# Altium integrated library TI Amplifiers and Linear Operational Amplifier Fully Differential Amplifier.IntLib: 262 symbols (part 6 of 11)
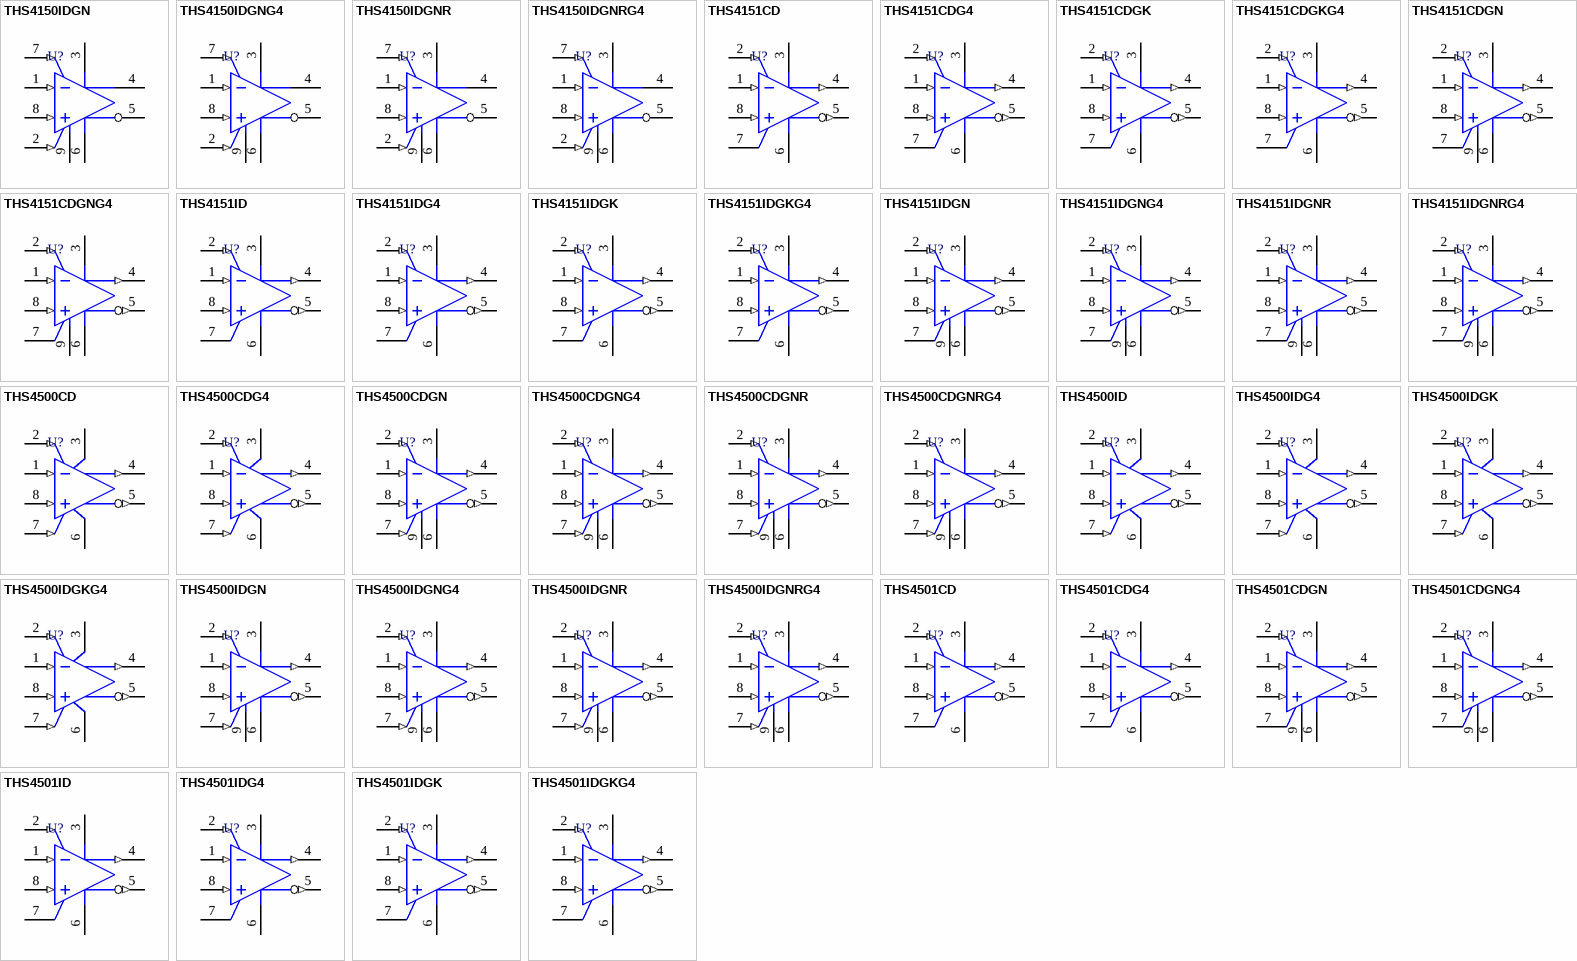
[diagram p12: symbols THS4150IDGN to THS4501IDGKG4]

## THS4151IDGNG4
designator U?
Fully Differential Input / Output High Slew Rate Amplifier, 5 to 30 V, -40 to 85 degC, 8-pin SOP (DGN8), Green (RoHS & no Sb/Br); Manufacturer: Texas Instruments; PartNumber: THS4151IDGNG4; 2nd Harmonic(dBc): 86; 3rd Harmonic(dBc): 95; @ MHz: 1; BW @ Acl(MHz): 150; Io(Typ)(mA): 85; Iq per channel(Max)(mA): 21; Offset Voltage Drift (+/-)(Max)(uV/Degrees Celsius: 7; Settling Time (0.1%)(Typ)(ns): 53; Slew Rate(Typ)(V/us): 650; SubFamily: Fully Differential Amplifier; THD (Fc is 1 MHz)(Typ)(dB): -84; Vn at Flatband(Typ)(nV/rtHz): 7.6; Vs(Max)(V): 30; Vs(Min)(V): 5; DatasheetVersion: SLOS321G; PackageVersion: 4073271/F, 05/2011; PackageReference: DGN8-1760X1425TP; PackageDescription: 8-Pin Plastic Small Outline, Body 3 x 3 mm, Pitch 0.65 mm; Supplier 1: Digi-Key; Supplier Part Number 1: THS4151IDGNG4-ND; Supplier 2: Mouser; Supplier Part Number 2: 595-THS4151IDGNG4; Eco-Plan: Green (RoHS & no Sb/Br); Number of Channels: 1; Vio(Max)(mV): 7; Mounting Technology: Surface Mount; Code_JEDEC: MO-187; ComponentLink1Description: Manufacturer URL; ComponentLink1URL: http://www.ti.com/; ComponentLink2Description: Datasheet; ComponentLink2URL: http://www.ti.com/general/docs/lit/getliterature.tsp?genericPartNumber=THS4151&fileType=pdf; ComponentLink3Description: Package Specification; ComponentLink3URL: http://www.ti.com/litv/pdf/mpds046e
footprint TI-DGN8-1760X1425TP_N (SOP, 8-Leads, Body 3x3mm, Pitch 0.65mm, Thermal Pad 1.76x1.425mm, IPC Medium Density)
footprint TI-DGN8-1760X1425TP_L (SOP, 8-Leads, Body 3x3mm, Pitch 0.65mm, Thermal Pad 1.76x1.425mm, IPC High Density)
footprint TI-DGN8-1760X1425TP_M (SOP, 8-Leads, Body 3x3mm, Pitch 0.65mm, Thermal Pad 1.76 x 1.425 mm, IPC Low Density)
pins: 1 VIN- (in), 2 VOCM (in), 3 VCC+ (power), 4 VOUT+ (out), 5 VOUT- (out), 6 VCC- (power), 7 NC, 8 VIN+ (in), 9 EP

## THS4151IDGNR
designator U?
Fully Differential Input / Output High Slew Rate Amplifier, 5 to 30 V, -40 to 85 degC, 8-pin SOP (DGN8), Green (RoHS & no Sb/Br); Manufacturer: Texas Instruments; PartNumber: THS4151IDGNR; 2nd Harmonic(dBc): 86; 3rd Harmonic(dBc): 95; @ MHz: 1; BW @ Acl(MHz): 150; Io(Typ)(mA): 85; Iq per channel(Max)(mA): 21; Offset Voltage Drift (+/-)(Max)(uV/Degrees Celsius: 7; Settling Time (0.1%)(Typ)(ns): 53; Slew Rate(Typ)(V/us): 650; SubFamily: Fully Differential Amplifier; THD (Fc is 1 MHz)(Typ)(dB): -84; Vn at Flatband(Typ)(nV/rtHz): 7.6; Vs(Max)(V): 30; Vs(Min)(V): 5; DatasheetVersion: SLOS321G; PackageVersion: 4073271/F, 05/2011; PackageReference: DGN8-1760X1425TP; PackageDescription: 8-Pin Plastic Small Outline, Body 3 x 3 mm, Pitch 0.65 mm; Supplier 1: Digi-Key; Supplier Part Number 1: 296-12303-2-ND; Supplier 2: Digi-Key; Supplier Part Number 2: 296-12303-1-ND; Supplier 3: Digi-Key; Supplier Part Number 3: 296-12303-6-ND; Supplier 4: Newark; Supplier Part Number 4: 76C6447; Supplier 5: Mouser; Supplier Part Number 5: 595-THS4151IDGNR; Eco-Plan: Green (RoHS & no Sb/Br); Number of Channels: 1; Vio(Max)(mV): 7; Mounting Technology: Surface Mount; Code_JEDEC: MO-187; ComponentLink1Description: Manufacturer URL; ComponentLink1URL: http://www.ti.com/; ComponentLink2Description: Datasheet; ComponentLink2URL: http://www.ti.com/general/docs/lit/getliterature.tsp?genericPartNumber=THS4151&fileType=pdf; ComponentLink3Description: Package Specification; ComponentLink3URL: http://www.ti.com/litv/pdf/mpds046e
footprint TI-DGN8-1760X1425TP_N (SOP, 8-Leads, Body 3x3mm, Pitch 0.65mm, Thermal Pad 1.76x1.425mm, IPC Medium Density)
footprint TI-DGN8-1760X1425TP_L (SOP, 8-Leads, Body 3x3mm, Pitch 0.65mm, Thermal Pad 1.76x1.425mm, IPC High Density)
footprint TI-DGN8-1760X1425TP_M (SOP, 8-Leads, Body 3x3mm, Pitch 0.65mm, Thermal Pad 1.76 x 1.425 mm, IPC Low Density)
pins: 1 VIN- (in), 2 VOCM (in), 3 VCC+ (power), 4 VOUT+ (out), 5 VOUT- (out), 6 VCC- (power), 7 NC, 8 VIN+ (in), 9 EP

## THS4151IDGNRG4
designator U?
Fully Differential Input / Output High Slew Rate Amplifier, 5 to 30 V, -40 to 85 degC, 8-pin SOP (DGN8), Green (RoHS & no Sb/Br); Manufacturer: Texas Instruments; PartNumber: THS4151IDGNRG4; 2nd Harmonic(dBc): 86; 3rd Harmonic(dBc): 95; @ MHz: 1; BW @ Acl(MHz): 150; Io(Typ)(mA): 85; Iq per channel(Max)(mA): 21; Offset Voltage Drift (+/-)(Max)(uV/Degrees Celsius: 7; Settling Time (0.1%)(Typ)(ns): 53; Slew Rate(Typ)(V/us): 650; SubFamily: Fully Differential Amplifier; THD (Fc is 1 MHz)(Typ)(dB): -84; Vn at Flatband(Typ)(nV/rtHz): 7.6; Vs(Max)(V): 30; Vs(Min)(V): 5; DatasheetVersion: SLOS321G; PackageVersion: 4073271/F, 05/2011; PackageReference: DGN8-1760X1425TP; PackageDescription: 8-Pin Plastic Small Outline, Body 3 x 3 mm, Pitch 0.65 mm; Supplier 1: Digi-Key; Supplier Part Number 1: THS4151IDGNRG4-ND; Supplier 2: Mouser; Supplier Part Number 2: 595-THS4151IDGNRG4; Eco-Plan: Green (RoHS & no Sb/Br); Number of Channels: 1; Vio(Max)(mV): 7; Mounting Technology: Surface Mount; Code_JEDEC: MO-187; ComponentLink1Description: Manufacturer URL; ComponentLink1URL: http://www.ti.com/; ComponentLink2Description: Datasheet; ComponentLink2URL: http://www.ti.com/general/docs/lit/getliterature.tsp?genericPartNumber=THS4151&fileType=pdf; ComponentLink3Description: Package Specification; ComponentLink3URL: http://www.ti.com/litv/pdf/mpds046e
footprint TI-DGN8-1760X1425TP_N (SOP, 8-Leads, Body 3x3mm, Pitch 0.65mm, Thermal Pad 1.76x1.425mm, IPC Medium Density)
footprint TI-DGN8-1760X1425TP_L (SOP, 8-Leads, Body 3x3mm, Pitch 0.65mm, Thermal Pad 1.76x1.425mm, IPC High Density)
footprint TI-DGN8-1760X1425TP_M (SOP, 8-Leads, Body 3x3mm, Pitch 0.65mm, Thermal Pad 1.76 x 1.425 mm, IPC Low Density)
pins: 1 VIN- (in), 2 VOCM (in), 3 VCC+ (power), 4 VOUT+ (out), 5 VOUT- (out), 6 VCC- (power), 7 NC, 8 VIN+ (in), 9 EP

## THS4500CD
designator U?
High-Speed Fully Differential Amplifier, 4.5 to 15 V, 0 to 70 degC, 8-pin SOIC (D8), Green (RoHS & no Sb/Br); Manufacturer: Texas Instruments; PartNumber: THS4500CD; 2nd Harmonic(dBc): 55; 3rd Harmonic(dBc): 60; @ MHz: 30; BW @ Acl(MHz): 320; Io(Typ)(mA): 100; Iq per channel(Max)(mA): 31; Number of Channels: 1; Offset Voltage Drift (+/-)(Max)(uV/Degrees Celsius: 10; Settling Time (0.1%)(Typ)(ns): 8.3; Slew Rate(Typ)(V/us): 1300; THD (Fc is 1 MHz)(Typ)(dB): -70; Vio(Max)(mV): -7; Vn at Flatband(Typ)(nV/rtHz): 7; Vs(Max)(V): 15; Vs(Min)(V): 4.5; DatasheetVersion: SLOS350F; PackageVersion: 4040047-3/M, 06/2011; PackageReference: D8; PackageDescription: 8-Pin Plastic Small Outline, Body 4.9 x 3.9 mm, Pitch 1.27 mm; Supplier 1: Digi-Key; Supplier Part Number 1: THS4500CD-ND; Supplier 2: Newark; Supplier Part Number 2: 76C6449; Supplier 3: Mouser; Supplier Part Number 3: 595-THS4500CD; Eco-Plan: Green (RoHS & no Sb/Br); SubFamily: Fully Differential Amplifier; Mounting Technology: Surface Mount; Code_JEDEC: MS-012; ComponentLink1Description: Manufacturer URL; ComponentLink1URL: http://www.ti.com/; ComponentLink2Description: Datasheet; ComponentLink2URL: http://www.ti.com/general/docs/lit/getliterature.tsp?genericPartNumber=THS4500&fileType=pdf; ComponentLink3Description: Package Specification; ComponentLink3URL: http://www.ti.com/litv/pdf/msoi002j
footprint TI-D8_N (SOIC, 8-Leads, Body 4.9x3.9mm, Pitch 1.27mm, IPC Medium Density)
footprint TI-D8_L (SOIC, 8-Leads, Body 4.9x3.9mm, Pitch 1.27mm, IPC High Density)
footprint TI-D8_M (SOIC, 8-Leads, Body 4.9x3.9mm, Pitch 1.27mm, IPC Low Density)
pins: 1 VIN- (in) "Inverting amplifier input", 2 VOCM (in) "Common-mode voltage input", 3 VS+ (power) "Amplifier positive power-supply input", 4 VOUT+ (out) "Noninverting amplifier output", 5 VOUT- (out) "Inverting amplifier output", 6 VS- (power) "Amplifier negative power-supply input. Note that VS- is tied together on multi-channel devices.", 7 ~{PD} (in) "Power down. P\D\ = logic low puts device into low-power mode. P\D\ = logic high or open for normal operation.", 8 VIN+ (in) "Noninverting amplifier input"

## THS4500CDG4
designator U?
High-Speed Fully Differential Amplifier, 4.5 to 15 V, 0 to 70 degC, 8-pin SOIC (D8), Green (RoHS & no Sb/Br); Manufacturer: Texas Instruments; PartNumber: THS4500CDG4; 2nd Harmonic(dBc): 55; 3rd Harmonic(dBc): 60; @ MHz: 30; BW @ Acl(MHz): 320; Io(Typ)(mA): 100; Iq per channel(Max)(mA): 31; Number of Channels: 1; Offset Voltage Drift (+/-)(Max)(uV/Degrees Celsius: 10; Settling Time (0.1%)(Typ)(ns): 8.3; Slew Rate(Typ)(V/us): 1300; THD (Fc is 1 MHz)(Typ)(dB): -70; Vio(Max)(mV): -7; Vn at Flatband(Typ)(nV/rtHz): 7; Vs(Max)(V): 15; Vs(Min)(V): 4.5; DatasheetVersion: SLOS350F; PackageVersion: 4040047-3/M, 06/2011; PackageReference: D8; PackageDescription: 8-Pin Plastic Small Outline, Body 4.9 x 3.9 mm, Pitch 1.27 mm; Supplier 1: Digi-Key; Supplier Part Number 1: THS4500CDG4-ND; Supplier 2: Mouser; Supplier Part Number 2: 595-THS4500CDG4; Eco-Plan: Green (RoHS & no Sb/Br); SubFamily: Fully Differential Amplifier; Mounting Technology: Surface Mount; Code_JEDEC: MS-012; ComponentLink1Description: Manufacturer URL; ComponentLink1URL: http://www.ti.com/; ComponentLink2Description: Datasheet; ComponentLink2URL: http://www.ti.com/general/docs/lit/getliterature.tsp?genericPartNumber=THS4500&fileType=pdf; ComponentLink3Description: Package Specification; ComponentLink3URL: http://www.ti.com/litv/pdf/msoi002j
footprint TI-D8_N (SOIC, 8-Leads, Body 4.9x3.9mm, Pitch 1.27mm, IPC Medium Density)
footprint TI-D8_L (SOIC, 8-Leads, Body 4.9x3.9mm, Pitch 1.27mm, IPC High Density)
footprint TI-D8_M (SOIC, 8-Leads, Body 4.9x3.9mm, Pitch 1.27mm, IPC Low Density)
pins: 1 VIN- (in) "Inverting amplifier input", 2 VOCM (in) "Common-mode voltage input", 3 VS+ (power) "Amplifier positive power-supply input", 4 VOUT+ (out) "Noninverting amplifier output", 5 VOUT- (out) "Inverting amplifier output", 6 VS- (power) "Amplifier negative power-supply input. Note that VS- is tied together on multi-channel devices.", 7 ~{PD} (in) "Power down. P\D\ = logic low puts device into low-power mode. P\D\ = logic high or open for normal operation.", 8 VIN+ (in) "Noninverting amplifier input"

## THS4500CDGN
designator U?
High-Speed Fully Differential Amplifier, 4.5 to 15 V, 0 to 70 degC, 8-pin SOP (DGN8), Green (RoHS & no Sb/Br); Manufacturer: Texas Instruments; PartNumber: THS4500CDGN; 2nd Harmonic(dBc): 55; 3rd Harmonic(dBc): 60; @ MHz: 30; BW @ Acl(MHz): 320; Io(Typ)(mA): 100; Iq per channel(Max)(mA): 31; Number of Channels: 1; Offset Voltage Drift (+/-)(Max)(uV/Degrees Celsius: 10; Settling Time (0.1%)(Typ)(ns): 8.3; Slew Rate(Typ)(V/us): 1300; THD (Fc is 1 MHz)(Typ)(dB): -70; Vio(Max)(mV): -7; Vn at Flatband(Typ)(nV/rtHz): 7; Vs(Max)(V): 15; Vs(Min)(V): 4.5; DatasheetVersion: SLOS350F; PackageVersion: 4073271/F, 05/2011; PackageReference: DGN8-1760X1425TP; PackageDescription: 8-Pin Plastic Small Outline, Body 3 x 3 mm, Pitch 0.65 mm; Supplier 1: Digi-Key; Supplier Part Number 1: THS4500CDGN-ND; Supplier 2: Mouser; Supplier Part Number 2: 595-THS4500CDGN; Eco-Plan: Green (RoHS & no Sb/Br); SubFamily: Fully Differential Amplifier; Mounting Technology: Surface Mount; Code_JEDEC: MO-187; ComponentLink1Description: Manufacturer URL; ComponentLink1URL: http://www.ti.com/; ComponentLink2Description: Datasheet; ComponentLink2URL: http://www.ti.com/general/docs/lit/getliterature.tsp?genericPartNumber=THS4500&fileType=pdf; ComponentLink3Description: Package Specification; ComponentLink3URL: http://www.ti.com/litv/pdf/mpds046e
footprint TI-DGN8-1760X1425TP_N (SOP, 8-Leads, Body 3x3mm, Pitch 0.65mm, Thermal Pad 1.76x1.425mm, IPC Medium Density)
footprint TI-DGN8-1760X1425TP_L (SOP, 8-Leads, Body 3x3mm, Pitch 0.65mm, Thermal Pad 1.76x1.425mm, IPC High Density)
footprint TI-DGN8-1760X1425TP_M (SOP, 8-Leads, Body 3x3mm, Pitch 0.65mm, Thermal Pad 1.76 x 1.425 mm, IPC Low Density)
pins: 1 VIN- (in), 2 VOCM (in), 3 VS+ (power), 4 VOUT+ (out), 5 VOUT- (out), 6 VS- (power), 7 ~{PD} (in), 8 VIN+ (in), 9 EP

## THS4500CDGNG4
designator U?
High-Speed Fully Differential Amplifier, 4.5 to 15 V, 0 to 70 degC, 8-pin SOP (DGN8), Green (RoHS & no Sb/Br); Manufacturer: Texas Instruments; PartNumber: THS4500CDGNG4; 2nd Harmonic(dBc): 55; 3rd Harmonic(dBc): 60; @ MHz: 30; BW @ Acl(MHz): 320; Io(Typ)(mA): 100; Iq per channel(Max)(mA): 31; Number of Channels: 1; Offset Voltage Drift (+/-)(Max)(uV/Degrees Celsius: 10; Settling Time (0.1%)(Typ)(ns): 8.3; Slew Rate(Typ)(V/us): 1300; THD (Fc is 1 MHz)(Typ)(dB): -70; Vio(Max)(mV): -7; Vn at Flatband(Typ)(nV/rtHz): 7; Vs(Max)(V): 15; Vs(Min)(V): 4.5; DatasheetVersion: SLOS350F; PackageVersion: 4073271/F, 05/2011; PackageReference: DGN8-1760X1425TP; PackageDescription: 8-Pin Plastic Small Outline, Body 3 x 3 mm, Pitch 0.65 mm; Supplier 1: Digi-Key; Supplier Part Number 1: THS4500CDGNG4-ND; Supplier 2: Mouser; Supplier Part Number 2: 595-THS4500CDGNG4; Eco-Plan: Green (RoHS & no Sb/Br); SubFamily: Fully Differential Amplifier; Mounting Technology: Surface Mount; Code_JEDEC: MO-187; ComponentLink1Description: Manufacturer URL; ComponentLink1URL: http://www.ti.com/; ComponentLink2Description: Datasheet; ComponentLink2URL: http://www.ti.com/general/docs/lit/getliterature.tsp?genericPartNumber=THS4500&fileType=pdf; ComponentLink3Description: Package Specification; ComponentLink3URL: http://www.ti.com/litv/pdf/mpds046e
footprint TI-DGN8-1760X1425TP_N (SOP, 8-Leads, Body 3x3mm, Pitch 0.65mm, Thermal Pad 1.76x1.425mm, IPC Medium Density)
footprint TI-DGN8-1760X1425TP_L (SOP, 8-Leads, Body 3x3mm, Pitch 0.65mm, Thermal Pad 1.76x1.425mm, IPC High Density)
footprint TI-DGN8-1760X1425TP_M (SOP, 8-Leads, Body 3x3mm, Pitch 0.65mm, Thermal Pad 1.76 x 1.425 mm, IPC Low Density)
pins: 1 VIN- (in), 2 VOCM (in), 3 VS+ (power), 4 VOUT+ (out), 5 VOUT- (out), 6 VS- (power), 7 ~{PD} (in), 8 VIN+ (in), 9 EP

## THS4500CDGNR
designator U?
High-Speed Fully Differential Amplifier, 4.5 to 15 V, 0 to 70 degC, 8-pin SOP (DGN8), Green (RoHS & no Sb/Br); Manufacturer: Texas Instruments; PartNumber: THS4500CDGNR; 2nd Harmonic(dBc): 55; 3rd Harmonic(dBc): 60; @ MHz: 30; BW @ Acl(MHz): 320; Io(Typ)(mA): 100; Iq per channel(Max)(mA): 31; Number of Channels: 1; Offset Voltage Drift (+/-)(Max)(uV/Degrees Celsius: 10; Settling Time (0.1%)(Typ)(ns): 8.3; Slew Rate(Typ)(V/us): 1300; THD (Fc is 1 MHz)(Typ)(dB): -70; Vio(Max)(mV): -7; Vn at Flatband(Typ)(nV/rtHz): 7; Vs(Max)(V): 15; Vs(Min)(V): 4.5; DatasheetVersion: SLOS350F; PackageVersion: 4073271/F, 05/2011; PackageReference: DGN8-1760X1425TP; PackageDescription: 8-Pin Plastic Small Outline, Body 3 x 3 mm, Pitch 0.65 mm; Supplier 1: Digi-Key; Supplier Part Number 1: THS4500CDGNR-ND; Supplier 2: Mouser; Supplier Part Number 2: 595-THS4500CDGNR; Eco-Plan: Green (RoHS & no Sb/Br); SubFamily: Fully Differential Amplifier; Mounting Technology: Surface Mount; Code_JEDEC: MO-187; ComponentLink1Description: Manufacturer URL; ComponentLink1URL: http://www.ti.com/; ComponentLink2Description: Datasheet; ComponentLink2URL: http://www.ti.com/general/docs/lit/getliterature.tsp?genericPartNumber=THS4500&fileType=pdf; ComponentLink3Description: Package Specification; ComponentLink3URL: http://www.ti.com/litv/pdf/mpds046e
footprint TI-DGN8-1760X1425TP_N (SOP, 8-Leads, Body 3x3mm, Pitch 0.65mm, Thermal Pad 1.76x1.425mm, IPC Medium Density)
footprint TI-DGN8-1760X1425TP_L (SOP, 8-Leads, Body 3x3mm, Pitch 0.65mm, Thermal Pad 1.76x1.425mm, IPC High Density)
footprint TI-DGN8-1760X1425TP_M (SOP, 8-Leads, Body 3x3mm, Pitch 0.65mm, Thermal Pad 1.76 x 1.425 mm, IPC Low Density)
pins: 1 VIN- (in), 2 VOCM (in), 3 VS+ (power), 4 VOUT+ (out), 5 VOUT- (out), 6 VS- (power), 7 ~{PD} (in), 8 VIN+ (in), 9 EP

## THS4500CDGNRG4
designator U?
High-Speed Fully Differential Amplifier, 4.5 to 15 V, 0 to 70 degC, 8-pin SOP (DGN8), Green (RoHS & no Sb/Br); Manufacturer: Texas Instruments; PartNumber: THS4500CDGNRG4; 2nd Harmonic(dBc): 55; 3rd Harmonic(dBc): 60; @ MHz: 30; BW @ Acl(MHz): 320; Io(Typ)(mA): 100; Iq per channel(Max)(mA): 31; Number of Channels: 1; Offset Voltage Drift (+/-)(Max)(uV/Degrees Celsius: 10; Settling Time (0.1%)(Typ)(ns): 8.3; Slew Rate(Typ)(V/us): 1300; THD (Fc is 1 MHz)(Typ)(dB): -70; Vio(Max)(mV): -7; Vn at Flatband(Typ)(nV/rtHz): 7; Vs(Max)(V): 15; Vs(Min)(V): 4.5; DatasheetVersion: SLOS350F; PackageVersion: 4073271/F, 05/2011; PackageReference: DGN8-1760X1425TP; PackageDescription: 8-Pin Plastic Small Outline, Body 3 x 3 mm, Pitch 0.65 mm; Supplier 1: Digi-Key; Supplier Part Number 1: THS4500CDGNRG4-ND; Supplier 2: Mouser; Supplier Part Number 2: 595-THS4500CDGNRG4; Eco-Plan: Green (RoHS & no Sb/Br); SubFamily: Fully Differential Amplifier; Mounting Technology: Surface Mount; Code_JEDEC: MO-187; ComponentLink1Description: Manufacturer URL; ComponentLink1URL: http://www.ti.com/; ComponentLink2Description: Datasheet; ComponentLink2URL: http://www.ti.com/general/docs/lit/getliterature.tsp?genericPartNumber=THS4500&fileType=pdf; ComponentLink3Description: Package Specification; ComponentLink3URL: http://www.ti.com/litv/pdf/mpds046e
footprint TI-DGN8-1760X1425TP_N (SOP, 8-Leads, Body 3x3mm, Pitch 0.65mm, Thermal Pad 1.76x1.425mm, IPC Medium Density)
footprint TI-DGN8-1760X1425TP_L (SOP, 8-Leads, Body 3x3mm, Pitch 0.65mm, Thermal Pad 1.76x1.425mm, IPC High Density)
footprint TI-DGN8-1760X1425TP_M (SOP, 8-Leads, Body 3x3mm, Pitch 0.65mm, Thermal Pad 1.76 x 1.425 mm, IPC Low Density)
pins: 1 VIN- (in), 2 VOCM (in), 3 VS+ (power), 4 VOUT+ (out), 5 VOUT- (out), 6 VS- (power), 7 ~{PD} (in), 8 VIN+ (in), 9 EP

## THS4500ID
designator U?
High-Speed Fully Differential Amplifier, 4.5 to 15 V, -40 to 85 degC, 8-pin SOIC (D8), Green (RoHS & no Sb/Br); Manufacturer: Texas Instruments; PartNumber: THS4500ID; 2nd Harmonic(dBc): 55; 3rd Harmonic(dBc): 60; @ MHz: 30; BW @ Acl(MHz): 320; Io(Typ)(mA): 100; Iq per channel(Max)(mA): 31; Number of Channels: 1; Offset Voltage Drift (+/-)(Max)(uV/Degrees Celsius: 10; Settling Time (0.1%)(Typ)(ns): 8.3; Slew Rate(Typ)(V/us): 1300; THD (Fc is 1 MHz)(Typ)(dB): -70; Vio(Max)(mV): -7; Vn at Flatband(Typ)(nV/rtHz): 7; Vs(Max)(V): 15; Vs(Min)(V): 4.5; DatasheetVersion: SLOS350F; PackageVersion: 4040047-3/M, 06/2011; PackageReference: D8; PackageDescription: 8-Pin Plastic Small Outline, Body 4.9 x 3.9 mm, Pitch 1.27 mm; Supplier 1: Digi-Key; Supplier Part Number 1: 296-12935-5-ND; Supplier 2: Farnell; Supplier Part Number 2: 8453365; Supplier 3: Newark; Supplier Part Number 3: 38K8262; Supplier 4: Mouser; Supplier Part Number 4: 595-THS4500ID; Eco-Plan: Green (RoHS & no Sb/Br); SubFamily: Fully Differential Amplifier; Mounting Technology: Surface Mount; Code_JEDEC: MS-012; ComponentLink1Description: Manufacturer URL; ComponentLink1URL: http://www.ti.com/; ComponentLink2Description: Datasheet; ComponentLink2URL: http://www.ti.com/general/docs/lit/getliterature.tsp?genericPartNumber=THS4500&fileType=pdf; ComponentLink3Description: Package Specification; ComponentLink3URL: http://www.ti.com/litv/pdf/msoi002j
footprint TI-D8_N (SOIC, 8-Leads, Body 4.9x3.9mm, Pitch 1.27mm, IPC Medium Density)
footprint TI-D8_L (SOIC, 8-Leads, Body 4.9x3.9mm, Pitch 1.27mm, IPC High Density)
footprint TI-D8_M (SOIC, 8-Leads, Body 4.9x3.9mm, Pitch 1.27mm, IPC Low Density)
pins: 1 VIN- (in) "Inverting amplifier input", 2 VOCM (in) "Common-mode voltage input", 3 VS+ (power) "Amplifier positive power-supply input", 4 VOUT+ (out) "Noninverting amplifier output", 5 VOUT- (out) "Inverting amplifier output", 6 VS- (power) "Amplifier negative power-supply input. Note that VS- is tied together on multi-channel devices.", 7 ~{PD} (in) "Power down. P\D\ = logic low puts device into low-power mode. P\D\ = logic high or open for normal operation.", 8 VIN+ (in) "Noninverting amplifier input"

## THS4500IDG4
designator U?
High-Speed Fully Differential Amplifier, 4.5 to 15 V, -40 to 85 degC, 8-pin SOIC (D8), Green (RoHS & no Sb/Br); Manufacturer: Texas Instruments; PartNumber: THS4500IDG4; 2nd Harmonic(dBc): 55; 3rd Harmonic(dBc): 60; @ MHz: 30; BW @ Acl(MHz): 320; Io(Typ)(mA): 100; Iq per channel(Max)(mA): 31; Number of Channels: 1; Offset Voltage Drift (+/-)(Max)(uV/Degrees Celsius: 10; Settling Time (0.1%)(Typ)(ns): 8.3; Slew Rate(Typ)(V/us): 1300; THD (Fc is 1 MHz)(Typ)(dB): -70; Vio(Max)(mV): -7; Vn at Flatband(Typ)(nV/rtHz): 7; Vs(Max)(V): 15; Vs(Min)(V): 4.5; DatasheetVersion: SLOS350F; PackageVersion: 4040047-3/M, 06/2011; PackageReference: D8; PackageDescription: 8-Pin Plastic Small Outline, Body 4.9 x 3.9 mm, Pitch 1.27 mm; Supplier 1: Digi-Key; Supplier Part Number 1: THS4500IDG4-ND; Supplier 2: Mouser; Supplier Part Number 2: 595-THS4500IDG4; Eco-Plan: Green (RoHS & no Sb/Br); SubFamily: Fully Differential Amplifier; Mounting Technology: Surface Mount; Code_JEDEC: MS-012; ComponentLink1Description: Manufacturer URL; ComponentLink1URL: http://www.ti.com/; ComponentLink2Description: Datasheet; ComponentLink2URL: http://www.ti.com/general/docs/lit/getliterature.tsp?genericPartNumber=THS4500&fileType=pdf; ComponentLink3Description: Package Specification; ComponentLink3URL: http://www.ti.com/litv/pdf/msoi002j
footprint TI-D8_N (SOIC, 8-Leads, Body 4.9x3.9mm, Pitch 1.27mm, IPC Medium Density)
footprint TI-D8_L (SOIC, 8-Leads, Body 4.9x3.9mm, Pitch 1.27mm, IPC High Density)
footprint TI-D8_M (SOIC, 8-Leads, Body 4.9x3.9mm, Pitch 1.27mm, IPC Low Density)
pins: 1 VIN- (in) "Inverting amplifier input", 2 VOCM (in) "Common-mode voltage input", 3 VS+ (power) "Amplifier positive power-supply input", 4 VOUT+ (out) "Noninverting amplifier output", 5 VOUT- (out) "Inverting amplifier output", 6 VS- (power) "Amplifier negative power-supply input. Note that VS- is tied together on multi-channel devices.", 7 ~{PD} (in) "Power down. P\D\ = logic low puts device into low-power mode. P\D\ = logic high or open for normal operation.", 8 VIN+ (in) "Noninverting amplifier input"

## THS4500IDGK
designator U?
High-Speed Fully Differential Amplifier, 4.5 to 15 V, -40 to 85 degC, 8-pin SOP (DGK8), Green (RoHS & no Sb/Br); Manufacturer: Texas Instruments; PartNumber: THS4500IDGK; 2nd Harmonic(dBc): 55; 3rd Harmonic(dBc): 60; @ MHz: 30; BW @ Acl(MHz): 320; Io(Typ)(mA): 100; Iq per channel(Max)(mA): 31; Number of Channels: 1; Offset Voltage Drift (+/-)(Max)(uV/Degrees Celsius: 10; Settling Time (0.1%)(Typ)(ns): 8.3; Slew Rate(Typ)(V/us): 1300; THD (Fc is 1 MHz)(Typ)(dB): -70; Vio(Max)(mV): -7; Vn at Flatband(Typ)(nV/rtHz): 7; Vs(Max)(V): 15; Vs(Min)(V): 4.5; DatasheetVersion: SLOS350F; PackageVersion: 4073329/E, 05/2006; PackageReference: DGK8; PackageDescription: 8-Pin Thin Small Outline, Body 3 x 3 mm, Pitch 0.65 mm; Supplier 1: Digi-Key; Supplier Part Number 1: 296-16787-5-ND; Supplier 2: Mouser; Supplier Part Number 2: 595-THS4500IDGK; Eco-Plan: Green (RoHS & no Sb/Br); SubFamily: Fully Differential Amplifier; Mounting Technology: Surface Mount; Code_JEDEC: MO-187; ComponentLink1Description: Manufacturer URL; ComponentLink1URL: http://www.ti.com/; ComponentLink2Description: Datasheet; ComponentLink2URL: http://www.ti.com/general/docs/lit/getliterature.tsp?genericPartNumber=THS4500&fileType=pdf; ComponentLink3Description: Package Specification; ComponentLink3URL: http://www.ti.com/litv/pdf/mpds028d
footprint TI-DGK8_N (SOP, 8-Leads, Body 3x3mm, Pitch 0.65mm, IPC Medium Density)
footprint TI-DGK8_L (SOP, 8-Leads, Body 3x3mm, Pitch 0.65mm, IPC High Density)
footprint TI-DGK8_M (SOP, 8-Leads, Body 3x3mm, Pitch 0.65mm, IPC Low Density)
pins: 1 VIN- (in) "Inverting amplifier input", 2 VOCM (in) "Common-mode voltage input", 3 VS+ (power) "Amplifier positive power-supply input", 4 VOUT+ (out) "Noninverting amplifier output", 5 VOUT- (out) "Inverting amplifier output", 6 VS- (power) "Amplifier negative power-supply input. Note that VS- is tied together on multi-channel devices.", 7 ~{PD} (in) "Power down. P\D\ = logic low puts device into low-power mode. P\D\ = logic high or open for normal operation.", 8 VIN+ (in) "Noninverting amplifier input"

## THS4500IDGKG4
designator U?
High-Speed Fully Differential Amplifier, 4.5 to 15 V, -40 to 85 degC, 8-pin SOP (DGK8), Green (RoHS & no Sb/Br); Manufacturer: Texas Instruments; PartNumber: THS4500IDGKG4; 2nd Harmonic(dBc): 55; 3rd Harmonic(dBc): 60; @ MHz: 30; BW @ Acl(MHz): 320; Io(Typ)(mA): 100; Iq per channel(Max)(mA): 31; Number of Channels: 1; Offset Voltage Drift (+/-)(Max)(uV/Degrees Celsius: 10; Settling Time (0.1%)(Typ)(ns): 8.3; Slew Rate(Typ)(V/us): 1300; THD (Fc is 1 MHz)(Typ)(dB): -70; Vio(Max)(mV): -7; Vn at Flatband(Typ)(nV/rtHz): 7; Vs(Max)(V): 15; Vs(Min)(V): 4.5; DatasheetVersion: SLOS350F; PackageVersion: 4073329/E, 05/2006; PackageReference: DGK8; PackageDescription: 8-Pin Thin Small Outline, Body 3 x 3 mm, Pitch 0.65 mm; Supplier 1: Digi-Key; Supplier Part Number 1: THS4500IDGKG4-ND; Supplier 2: Mouser; Supplier Part Number 2: 595-THS4500IDGKG4; Eco-Plan: Green (RoHS & no Sb/Br); SubFamily: Fully Differential Amplifier; Mounting Technology: Surface Mount; Code_JEDEC: MO-187; ComponentLink1Description: Manufacturer URL; ComponentLink1URL: http://www.ti.com/; ComponentLink2Description: Datasheet; ComponentLink2URL: http://www.ti.com/general/docs/lit/getliterature.tsp?genericPartNumber=THS4500&fileType=pdf; ComponentLink3Description: Package Specification; ComponentLink3URL: http://www.ti.com/litv/pdf/mpds028d
footprint TI-DGK8_N (SOP, 8-Leads, Body 3x3mm, Pitch 0.65mm, IPC Medium Density)
footprint TI-DGK8_L (SOP, 8-Leads, Body 3x3mm, Pitch 0.65mm, IPC High Density)
footprint TI-DGK8_M (SOP, 8-Leads, Body 3x3mm, Pitch 0.65mm, IPC Low Density)
pins: 1 VIN- (in) "Inverting amplifier input", 2 VOCM (in) "Common-mode voltage input", 3 VS+ (power) "Amplifier positive power-supply input", 4 VOUT+ (out) "Noninverting amplifier output", 5 VOUT- (out) "Inverting amplifier output", 6 VS- (power) "Amplifier negative power-supply input. Note that VS- is tied together on multi-channel devices.", 7 ~{PD} (in) "Power down. P\D\ = logic low puts device into low-power mode. P\D\ = logic high or open for normal operation.", 8 VIN+ (in) "Noninverting amplifier input"

## THS4500IDGN
designator U?
High-Speed Fully Differential Amplifier, 4.5 to 15 V, -40 to 85 degC, 8-pin SOP (DGN8), Green (RoHS & no Sb/Br); Manufacturer: Texas Instruments; PartNumber: THS4500IDGN; 2nd Harmonic(dBc): 55; 3rd Harmonic(dBc): 60; @ MHz: 30; BW @ Acl(MHz): 320; Io(Typ)(mA): 100; Iq per channel(Max)(mA): 31; Number of Channels: 1; Offset Voltage Drift (+/-)(Max)(uV/Degrees Celsius: 10; Settling Time (0.1%)(Typ)(ns): 8.3; Slew Rate(Typ)(V/us): 1300; THD (Fc is 1 MHz)(Typ)(dB): -70; Vio(Max)(mV): -7; Vn at Flatband(Typ)(nV/rtHz): 7; Vs(Max)(V): 15; Vs(Min)(V): 4.5; DatasheetVersion: SLOS350F; PackageVersion: 4073271/F, 05/2011; PackageReference: DGN8-1760X1425TP; PackageDescription: 8-Pin Plastic Small Outline, Body 3 x 3 mm, Pitch 0.65 mm; Supplier 1: Digi-Key; Supplier Part Number 1: 296-13045-5-ND; Supplier 2: Newark; Supplier Part Number 2: 76C6454; Supplier 3: Mouser; Supplier Part Number 3: 595-THS4500IDGN; Eco-Plan: Green (RoHS & no Sb/Br); SubFamily: Fully Differential Amplifier; Mounting Technology: Surface Mount; Code_JEDEC: MO-187; ComponentLink1Description: Manufacturer URL; ComponentLink1URL: http://www.ti.com/; ComponentLink2Description: Datasheet; ComponentLink2URL: http://www.ti.com/general/docs/lit/getliterature.tsp?genericPartNumber=THS4500&fileType=pdf; ComponentLink3Description: Package Specification; ComponentLink3URL: http://www.ti.com/litv/pdf/mpds046e
footprint TI-DGN8-1760X1425TP_N (SOP, 8-Leads, Body 3x3mm, Pitch 0.65mm, Thermal Pad 1.76x1.425mm, IPC Medium Density)
footprint TI-DGN8-1760X1425TP_L (SOP, 8-Leads, Body 3x3mm, Pitch 0.65mm, Thermal Pad 1.76x1.425mm, IPC High Density)
footprint TI-DGN8-1760X1425TP_M (SOP, 8-Leads, Body 3x3mm, Pitch 0.65mm, Thermal Pad 1.76 x 1.425 mm, IPC Low Density)
pins: 1 VIN- (in), 2 VOCM (in), 3 VS+ (power), 4 VOUT+ (out), 5 VOUT- (out), 6 VS- (power), 7 ~{PD} (in), 8 VIN+ (in), 9 EP

## THS4500IDGNG4
designator U?
High-Speed Fully Differential Amplifier, 4.5 to 15 V, -40 to 85 degC, 8-pin SOP (DGN8), Green (RoHS & no Sb/Br); Manufacturer: Texas Instruments; PartNumber: THS4500IDGNG4; 2nd Harmonic(dBc): 55; 3rd Harmonic(dBc): 60; @ MHz: 30; BW @ Acl(MHz): 320; Io(Typ)(mA): 100; Iq per channel(Max)(mA): 31; Number of Channels: 1; Offset Voltage Drift (+/-)(Max)(uV/Degrees Celsius: 10; Settling Time (0.1%)(Typ)(ns): 8.3; Slew Rate(Typ)(V/us): 1300; THD (Fc is 1 MHz)(Typ)(dB): -70; Vio(Max)(mV): -7; Vn at Flatband(Typ)(nV/rtHz): 7; Vs(Max)(V): 15; Vs(Min)(V): 4.5; DatasheetVersion: SLOS350F; PackageVersion: 4073271/F, 05/2011; PackageReference: DGN8-1760X1425TP; PackageDescription: 8-Pin Plastic Small Outline, Body 3 x 3 mm, Pitch 0.65 mm; Supplier 1: Digi-Key; Supplier Part Number 1: THS4500IDGNG4-ND; Supplier 2: Mouser; Supplier Part Number 2: 595-THS4500IDGNG4; Eco-Plan: Green (RoHS & no Sb/Br); SubFamily: Fully Differential Amplifier; Mounting Technology: Surface Mount; Code_JEDEC: MO-187; ComponentLink1Description: Manufacturer URL; ComponentLink1URL: http://www.ti.com/; ComponentLink2Description: Datasheet; ComponentLink2URL: http://www.ti.com/general/docs/lit/getliterature.tsp?genericPartNumber=THS4500&fileType=pdf; ComponentLink3Description: Package Specification; ComponentLink3URL: http://www.ti.com/litv/pdf/mpds046e
footprint TI-DGN8-1760X1425TP_N (SOP, 8-Leads, Body 3x3mm, Pitch 0.65mm, Thermal Pad 1.76x1.425mm, IPC Medium Density)
footprint TI-DGN8-1760X1425TP_L (SOP, 8-Leads, Body 3x3mm, Pitch 0.65mm, Thermal Pad 1.76x1.425mm, IPC High Density)
footprint TI-DGN8-1760X1425TP_M (SOP, 8-Leads, Body 3x3mm, Pitch 0.65mm, Thermal Pad 1.76 x 1.425 mm, IPC Low Density)
pins: 1 VIN- (in), 2 VOCM (in), 3 VS+ (power), 4 VOUT+ (out), 5 VOUT- (out), 6 VS- (power), 7 ~{PD} (in), 8 VIN+ (in), 9 EP

## THS4500IDGNR
designator U?
High-Speed Fully Differential Amplifier, 4.5 to 15 V, -40 to 85 degC, 8-pin SOP (DGN8), Green (RoHS & no Sb/Br); Manufacturer: Texas Instruments; PartNumber: THS4500IDGNR; 2nd Harmonic(dBc): 55; 3rd Harmonic(dBc): 60; @ MHz: 30; BW @ Acl(MHz): 320; Io(Typ)(mA): 100; Iq per channel(Max)(mA): 31; Number of Channels: 1; Offset Voltage Drift (+/-)(Max)(uV/Degrees Celsius: 10; Settling Time (0.1%)(Typ)(ns): 8.3; Slew Rate(Typ)(V/us): 1300; THD (Fc is 1 MHz)(Typ)(dB): -70; Vio(Max)(mV): -7; Vn at Flatband(Typ)(nV/rtHz): 7; Vs(Max)(V): 15; Vs(Min)(V): 4.5; DatasheetVersion: SLOS350F; PackageVersion: 4073271/F, 05/2011; PackageReference: DGN8-1760X1425TP; PackageDescription: 8-Pin Plastic Small Outline, Body 3 x 3 mm, Pitch 0.65 mm; Supplier 1: Digi-Key; Supplier Part Number 1: THS4500IDGNR-ND; Supplier 2: Mouser; Supplier Part Number 2: 595-THS4500IDGNR; Eco-Plan: Green (RoHS & no Sb/Br); SubFamily: Fully Differential Amplifier; Mounting Technology: Surface Mount; Code_JEDEC: MO-187; ComponentLink1Description: Manufacturer URL; ComponentLink1URL: http://www.ti.com/; ComponentLink2Description: Datasheet; ComponentLink2URL: http://www.ti.com/general/docs/lit/getliterature.tsp?genericPartNumber=THS4500&fileType=pdf; ComponentLink3Description: Package Specification; ComponentLink3URL: http://www.ti.com/litv/pdf/mpds046e
footprint TI-DGN8-1760X1425TP_N (SOP, 8-Leads, Body 3x3mm, Pitch 0.65mm, Thermal Pad 1.76x1.425mm, IPC Medium Density)
footprint TI-DGN8-1760X1425TP_L (SOP, 8-Leads, Body 3x3mm, Pitch 0.65mm, Thermal Pad 1.76x1.425mm, IPC High Density)
footprint TI-DGN8-1760X1425TP_M (SOP, 8-Leads, Body 3x3mm, Pitch 0.65mm, Thermal Pad 1.76 x 1.425 mm, IPC Low Density)
pins: 1 VIN- (in), 2 VOCM (in), 3 VS+ (power), 4 VOUT+ (out), 5 VOUT- (out), 6 VS- (power), 7 ~{PD} (in), 8 VIN+ (in), 9 EP

## THS4500IDGNRG4
designator U?
High-Speed Fully Differential Amplifier, 4.5 to 15 V, -40 to 85 degC, 8-pin SOP (DGN8), Green (RoHS & no Sb/Br); Manufacturer: Texas Instruments; PartNumber: THS4500IDGNRG4; 2nd Harmonic(dBc): 55; 3rd Harmonic(dBc): 60; @ MHz: 30; BW @ Acl(MHz): 320; Io(Typ)(mA): 100; Iq per channel(Max)(mA): 31; Number of Channels: 1; Offset Voltage Drift (+/-)(Max)(uV/Degrees Celsius: 10; Settling Time (0.1%)(Typ)(ns): 8.3; Slew Rate(Typ)(V/us): 1300; THD (Fc is 1 MHz)(Typ)(dB): -70; Vio(Max)(mV): -7; Vn at Flatband(Typ)(nV/rtHz): 7; Vs(Max)(V): 15; Vs(Min)(V): 4.5; DatasheetVersion: SLOS350F; PackageVersion: 4073271/F, 05/2011; PackageReference: DGN8-1760X1425TP; PackageDescription: 8-Pin Plastic Small Outline, Body 3 x 3 mm, Pitch 0.65 mm; Supplier 1: Digi-Key; Supplier Part Number 1: THS4500IDGNRG4-ND; Supplier 2: Mouser; Supplier Part Number 2: 595-THS4500IDGNRG4; Eco-Plan: Green (RoHS & no Sb/Br); SubFamily: Fully Differential Amplifier; Mounting Technology: Surface Mount; Code_JEDEC: MO-187; ComponentLink1Description: Manufacturer URL; ComponentLink1URL: http://www.ti.com/; ComponentLink2Description: Datasheet; ComponentLink2URL: http://www.ti.com/general/docs/lit/getliterature.tsp?genericPartNumber=THS4500&fileType=pdf; ComponentLink3Description: Package Specification; ComponentLink3URL: http://www.ti.com/litv/pdf/mpds046e
footprint TI-DGN8-1760X1425TP_N (SOP, 8-Leads, Body 3x3mm, Pitch 0.65mm, Thermal Pad 1.76x1.425mm, IPC Medium Density)
footprint TI-DGN8-1760X1425TP_L (SOP, 8-Leads, Body 3x3mm, Pitch 0.65mm, Thermal Pad 1.76x1.425mm, IPC High Density)
footprint TI-DGN8-1760X1425TP_M (SOP, 8-Leads, Body 3x3mm, Pitch 0.65mm, Thermal Pad 1.76 x 1.425 mm, IPC Low Density)
pins: 1 VIN- (in), 2 VOCM (in), 3 VS+ (power), 4 VOUT+ (out), 5 VOUT- (out), 6 VS- (power), 7 ~{PD} (in), 8 VIN+ (in), 9 EP

## THS4501CD
designator U?
High-Speed Fully Differential Amplifier, 4.5 to 15 V, 0 to 70 degC, 8-pin SOIC (D8), Green (RoHS & no Sb/Br); Manufacturer: Texas Instruments; PartNumber: THS4501CD; 2nd Harmonic(dBc): 55; 3rd Harmonic(dBc): 60; @ MHz: 30; BW @ Acl(MHz): 320; Io(Typ)(mA): 100; Iq per channel(Max)(mA): 31; Number of Channels: 1; Offset Voltage Drift (+/-)(Max)(uV/Degrees Celsius: 10; Settling Time (0.1%)(Typ)(ns): 8.3; Slew Rate(Typ)(V/us): 1300; THD (Fc is 1 MHz)(Typ)(dB): -70; Vio(Max)(mV): -7; Vn at Flatband(Typ)(nV/rtHz): 7; Vs(Max)(V): 15; Vs(Min)(V): 4.5; DatasheetVersion: SLOS350F; PackageVersion: 4040047-3/M, 06/2011; PackageReference: D8; PackageDescription: 8-Pin Plastic Small Outline, Body 4.9 x 3.9 mm, Pitch 1.27 mm; Supplier 1: Digi-Key; Supplier Part Number 1: THS4501CD-ND; Supplier 2: Mouser; Supplier Part Number 2: 595-THS4501CD; Eco-Plan: Green (RoHS & no Sb/Br); SubFamily: Fully Differential Amplifier; Mounting Technology: Surface Mount; Code_JEDEC: MS-012; ComponentLink1Description: Manufacturer URL; ComponentLink1URL: http://www.ti.com/; ComponentLink2Description: Datasheet; ComponentLink2URL: http://www.ti.com/general/docs/lit/getliterature.tsp?genericPartNumber=THS4501&fileType=pdf; ComponentLink3Description: Package Specification; ComponentLink3URL: http://www.ti.com/litv/pdf/msoi002j
footprint TI-D8_N (SOIC, 8-Leads, Body 4.9x3.9mm, Pitch 1.27mm, IPC Medium Density)
footprint TI-D8_L (SOIC, 8-Leads, Body 4.9x3.9mm, Pitch 1.27mm, IPC High Density)
footprint TI-D8_M (SOIC, 8-Leads, Body 4.9x3.9mm, Pitch 1.27mm, IPC Low Density)
pins: 1 VIN- (in), 2 VOCM (in), 3 VS+ (power), 4 VOUT+ (out), 5 VOUT- (out), 6 VS- (power), 7 NC, 8 VIN+ (in)

## THS4501CDG4
designator U?
High-Speed Fully Differential Amplifier, 4.5 to 15 V, 0 to 70 degC, 8-pin SOIC (D8), Green (RoHS & no Sb/Br); Manufacturer: Texas Instruments; PartNumber: THS4501CDG4; 2nd Harmonic(dBc): 55; 3rd Harmonic(dBc): 60; @ MHz: 30; BW @ Acl(MHz): 320; Io(Typ)(mA): 100; Iq per channel(Max)(mA): 31; Number of Channels: 1; Offset Voltage Drift (+/-)(Max)(uV/Degrees Celsius: 10; Settling Time (0.1%)(Typ)(ns): 8.3; Slew Rate(Typ)(V/us): 1300; THD (Fc is 1 MHz)(Typ)(dB): -70; Vio(Max)(mV): -7; Vn at Flatband(Typ)(nV/rtHz): 7; Vs(Max)(V): 15; Vs(Min)(V): 4.5; DatasheetVersion: SLOS350F; PackageVersion: 4040047-3/M, 06/2011; PackageReference: D8; PackageDescription: 8-Pin Plastic Small Outline, Body 4.9 x 3.9 mm, Pitch 1.27 mm; Supplier 1: Digi-Key; Supplier Part Number 1: THS4501CDG4-ND; Supplier 2: Mouser; Supplier Part Number 2: 595-THS4501CDG4; Eco-Plan: Green (RoHS & no Sb/Br); SubFamily: Fully Differential Amplifier; Mounting Technology: Surface Mount; Code_JEDEC: MS-012; ComponentLink1Description: Manufacturer URL; ComponentLink1URL: http://www.ti.com/; ComponentLink2Description: Datasheet; ComponentLink2URL: http://www.ti.com/general/docs/lit/getliterature.tsp?genericPartNumber=THS4501&fileType=pdf; ComponentLink3Description: Package Specification; ComponentLink3URL: http://www.ti.com/litv/pdf/msoi002j
footprint TI-D8_N (SOIC, 8-Leads, Body 4.9x3.9mm, Pitch 1.27mm, IPC Medium Density)
footprint TI-D8_L (SOIC, 8-Leads, Body 4.9x3.9mm, Pitch 1.27mm, IPC High Density)
footprint TI-D8_M (SOIC, 8-Leads, Body 4.9x3.9mm, Pitch 1.27mm, IPC Low Density)
pins: 1 VIN- (in), 2 VOCM (in), 3 VS+ (power), 4 VOUT+ (out), 5 VOUT- (out), 6 VS- (power), 7 NC, 8 VIN+ (in)

## THS4501CDGN
designator U?
High-Speed Fully Differential Amplifier, 4.5 to 15 V, 0 to 70 degC, 8-pin SOP (DGN8), Green (RoHS & no Sb/Br); Manufacturer: Texas Instruments; PartNumber: THS4501CDGN; 2nd Harmonic(dBc): 55; 3rd Harmonic(dBc): 60; @ MHz: 30; BW @ Acl(MHz): 320; Io(Typ)(mA): 100; Iq per channel(Max)(mA): 31; Number of Channels: 1; Offset Voltage Drift (+/-)(Max)(uV/Degrees Celsius: 10; Settling Time (0.1%)(Typ)(ns): 8.3; Slew Rate(Typ)(V/us): 1300; THD (Fc is 1 MHz)(Typ)(dB): -70; Vio(Max)(mV): -7; Vn at Flatband(Typ)(nV/rtHz): 7; Vs(Max)(V): 15; Vs(Min)(V): 4.5; DatasheetVersion: SLOS350F; PackageVersion: 4073271/F, 05/2011; PackageReference: DGN8-1760X1425TP; PackageDescription: 8-Pin Plastic Small Outline, Body 3 x 3 mm, Pitch 0.65 mm; Supplier 1: Digi-Key; Supplier Part Number 1: THS4501CDGN-ND; Supplier 2: Mouser; Supplier Part Number 2: 595-THS4501CDGN; Eco-Plan: Green (RoHS & no Sb/Br); SubFamily: Fully Differential Amplifier; Mounting Technology: Surface Mount; Code_JEDEC: MO-187; ComponentLink1Description: Manufacturer URL; ComponentLink1URL: http://www.ti.com/; ComponentLink2Description: Datasheet; ComponentLink2URL: http://www.ti.com/general/docs/lit/getliterature.tsp?genericPartNumber=THS4501&fileType=pdf; ComponentLink3Description: Package Specification; ComponentLink3URL: http://www.ti.com/litv/pdf/mpds046e
footprint TI-DGN8-1760X1425TP_N (SOP, 8-Leads, Body 3x3mm, Pitch 0.65mm, Thermal Pad 1.76x1.425mm, IPC Medium Density)
footprint TI-DGN8-1760X1425TP_L (SOP, 8-Leads, Body 3x3mm, Pitch 0.65mm, Thermal Pad 1.76x1.425mm, IPC High Density)
footprint TI-DGN8-1760X1425TP_M (SOP, 8-Leads, Body 3x3mm, Pitch 0.65mm, Thermal Pad 1.76 x 1.425 mm, IPC Low Density)
pins: 1 VIN- (in), 2 VOCM (in), 3 VS+ (power), 4 VOUT+ (out), 5 VOUT- (out), 6 VS- (power), 7 NC, 8 VIN+ (in), 9 EP

## THS4501CDGNG4
designator U?
High-Speed Fully Differential Amplifier, 4.5 to 15 V, 0 to 70 degC, 8-pin SOP (DGN8), Green (RoHS & no Sb/Br); Manufacturer: Texas Instruments; PartNumber: THS4501CDGNG4; 2nd Harmonic(dBc): 55; 3rd Harmonic(dBc): 60; @ MHz: 30; BW @ Acl(MHz): 320; Io(Typ)(mA): 100; Iq per channel(Max)(mA): 31; Number of Channels: 1; Offset Voltage Drift (+/-)(Max)(uV/Degrees Celsius: 10; Settling Time (0.1%)(Typ)(ns): 8.3; Slew Rate(Typ)(V/us): 1300; THD (Fc is 1 MHz)(Typ)(dB): -70; Vio(Max)(mV): -7; Vn at Flatband(Typ)(nV/rtHz): 7; Vs(Max)(V): 15; Vs(Min)(V): 4.5; DatasheetVersion: SLOS350F; PackageVersion: 4073271/F, 05/2011; PackageReference: DGN8-1760X1425TP; PackageDescription: 8-Pin Plastic Small Outline, Body 3 x 3 mm, Pitch 0.65 mm; Supplier 1: Digi-Key; Supplier Part Number 1: THS4501CDGNG4-ND; Supplier 2: Mouser; Supplier Part Number 2: 595-THS4501CDGNG4; Eco-Plan: Green (RoHS & no Sb/Br); SubFamily: Fully Differential Amplifier; Mounting Technology: Surface Mount; Code_JEDEC: MO-187; ComponentLink1Description: Manufacturer URL; ComponentLink1URL: http://www.ti.com/; ComponentLink2Description: Datasheet; ComponentLink2URL: http://www.ti.com/general/docs/lit/getliterature.tsp?genericPartNumber=THS4501&fileType=pdf; ComponentLink3Description: Package Specification; ComponentLink3URL: http://www.ti.com/litv/pdf/mpds046e
footprint TI-DGN8-1760X1425TP_N (SOP, 8-Leads, Body 3x3mm, Pitch 0.65mm, Thermal Pad 1.76x1.425mm, IPC Medium Density)
footprint TI-DGN8-1760X1425TP_L (SOP, 8-Leads, Body 3x3mm, Pitch 0.65mm, Thermal Pad 1.76x1.425mm, IPC High Density)
footprint TI-DGN8-1760X1425TP_M (SOP, 8-Leads, Body 3x3mm, Pitch 0.65mm, Thermal Pad 1.76 x 1.425 mm, IPC Low Density)
pins: 1 VIN- (in), 2 VOCM (in), 3 VS+ (power), 4 VOUT+ (out), 5 VOUT- (out), 6 VS- (power), 7 NC, 8 VIN+ (in), 9 EP

## THS4501ID
designator U?
High-Speed Fully Differential Amplifier, 4.5 to 15 V, -40 to 85 degC, 8-pin SOIC (D8), Green (RoHS & no Sb/Br); Manufacturer: Texas Instruments; PartNumber: THS4501ID; 2nd Harmonic(dBc): 55; 3rd Harmonic(dBc): 60; @ MHz: 30; BW @ Acl(MHz): 320; Io(Typ)(mA): 100; Iq per channel(Max)(mA): 31; Number of Channels: 1; Offset Voltage Drift (+/-)(Max)(uV/Degrees Celsius: 10; Settling Time (0.1%)(Typ)(ns): 8.3; Slew Rate(Typ)(V/us): 1300; THD (Fc is 1 MHz)(Typ)(dB): -70; Vio(Max)(mV): -7; Vn at Flatband(Typ)(nV/rtHz): 7; Vs(Max)(V): 15; Vs(Min)(V): 4.5; DatasheetVersion: SLOS350F; PackageVersion: 4040047-3/M, 06/2011; PackageReference: D8; PackageDescription: 8-Pin Plastic Small Outline, Body 4.9 x 3.9 mm, Pitch 1.27 mm; Supplier 1: Digi-Key; Supplier Part Number 1: 296-12936-5-ND; Supplier 2: Farnell; Supplier Part Number 2: 8453373; Supplier 3: Newark; Supplier Part Number 3: 38K8263; Supplier 4: Mouser; Supplier Part Number 4: 595-THS4501ID; Eco-Plan: Green (RoHS & no Sb/Br); SubFamily: Fully Differential Amplifier; Mounting Technology: Surface Mount; Code_JEDEC: MS-012; ComponentLink1Description: Manufacturer URL; ComponentLink1URL: http://www.ti.com/; ComponentLink2Description: Datasheet; ComponentLink2URL: http://www.ti.com/general/docs/lit/getliterature.tsp?genericPartNumber=THS4501&fileType=pdf; ComponentLink3Description: Package Specification; ComponentLink3URL: http://www.ti.com/litv/pdf/msoi002j
footprint TI-D8_N (SOIC, 8-Leads, Body 4.9x3.9mm, Pitch 1.27mm, IPC Medium Density)
footprint TI-D8_L (SOIC, 8-Leads, Body 4.9x3.9mm, Pitch 1.27mm, IPC High Density)
footprint TI-D8_M (SOIC, 8-Leads, Body 4.9x3.9mm, Pitch 1.27mm, IPC Low Density)
pins: 1 VIN- (in), 2 VOCM (in), 3 VS+ (power), 4 VOUT+ (out), 5 VOUT- (out), 6 VS- (power), 7 NC, 8 VIN+ (in)

## THS4501IDG4
designator U?
High-Speed Fully Differential Amplifier, 4.5 to 15 V, -40 to 85 degC, 8-pin SOIC (D8), Green (RoHS & no Sb/Br); Manufacturer: Texas Instruments; PartNumber: THS4501IDG4; 2nd Harmonic(dBc): 55; 3rd Harmonic(dBc): 60; @ MHz: 30; BW @ Acl(MHz): 320; Io(Typ)(mA): 100; Iq per channel(Max)(mA): 31; Number of Channels: 1; Offset Voltage Drift (+/-)(Max)(uV/Degrees Celsius: 10; Settling Time (0.1%)(Typ)(ns): 8.3; Slew Rate(Typ)(V/us): 1300; THD (Fc is 1 MHz)(Typ)(dB): -70; Vio(Max)(mV): -7; Vn at Flatband(Typ)(nV/rtHz): 7; Vs(Max)(V): 15; Vs(Min)(V): 4.5; DatasheetVersion: SLOS350F; PackageVersion: 4040047-3/M, 06/2011; PackageReference: D8; PackageDescription: 8-Pin Plastic Small Outline, Body 4.9 x 3.9 mm, Pitch 1.27 mm; Supplier 1: Digi-Key; Supplier Part Number 1: THS4501IDG4-ND; Supplier 2: Mouser; Supplier Part Number 2: 595-THS4501IDG4; Eco-Plan: Green (RoHS & no Sb/Br); SubFamily: Fully Differential Amplifier; Mounting Technology: Surface Mount; Code_JEDEC: MS-012; ComponentLink1Description: Manufacturer URL; ComponentLink1URL: http://www.ti.com/; ComponentLink2Description: Datasheet; ComponentLink2URL: http://www.ti.com/general/docs/lit/getliterature.tsp?genericPartNumber=THS4501&fileType=pdf; ComponentLink3Description: Package Specification; ComponentLink3URL: http://www.ti.com/litv/pdf/msoi002j
footprint TI-D8_N (SOIC, 8-Leads, Body 4.9x3.9mm, Pitch 1.27mm, IPC Medium Density)
footprint TI-D8_L (SOIC, 8-Leads, Body 4.9x3.9mm, Pitch 1.27mm, IPC High Density)
footprint TI-D8_M (SOIC, 8-Leads, Body 4.9x3.9mm, Pitch 1.27mm, IPC Low Density)
pins: 1 VIN- (in), 2 VOCM (in), 3 VS+ (power), 4 VOUT+ (out), 5 VOUT- (out), 6 VS- (power), 7 NC, 8 VIN+ (in)

## THS4501IDGK
designator U?
High-Speed Fully Differential Amplifier, 4.5 to 15 V, -40 to 85 degC, 8-pin SOP (DGK8), Green (RoHS & no Sb/Br); Manufacturer: Texas Instruments; PartNumber: THS4501IDGK; 2nd Harmonic(dBc): 55; 3rd Harmonic(dBc): 60; @ MHz: 30; BW @ Acl(MHz): 320; Io(Typ)(mA): 100; Iq per channel(Max)(mA): 31; Number of Channels: 1; Offset Voltage Drift (+/-)(Max)(uV/Degrees Celsius: 10; Settling Time (0.1%)(Typ)(ns): 8.3; Slew Rate(Typ)(V/us): 1300; THD (Fc is 1 MHz)(Typ)(dB): -70; Vio(Max)(mV): -7; Vn at Flatband(Typ)(nV/rtHz): 7; Vs(Max)(V): 15; Vs(Min)(V): 4.5; DatasheetVersion: SLOS350F; PackageVersion: 4073329/E, 05/2006; PackageReference: DGK8; PackageDescription: 8-Pin Thin Small Outline, Body 3 x 3 mm, Pitch 0.65 mm; Supplier 1: Digi-Key; Supplier Part Number 1: 296-16788-5-ND; Supplier 2: Mouser; Supplier Part Number 2: 595-THS4501IDGK; Eco-Plan: Green (RoHS & no Sb/Br); SubFamily: Fully Differential Amplifier; Mounting Technology: Surface Mount; Code_JEDEC: MO-187; ComponentLink1Description: Manufacturer URL; ComponentLink1URL: http://www.ti.com/; ComponentLink2Description: Datasheet; ComponentLink2URL: http://www.ti.com/general/docs/lit/getliterature.tsp?genericPartNumber=THS4501&fileType=pdf; ComponentLink3Description: Package Specification; ComponentLink3URL: http://www.ti.com/litv/pdf/mpds028d
footprint TI-DGK8_N (SOP, 8-Leads, Body 3x3mm, Pitch 0.65mm, IPC Medium Density)
footprint TI-DGK8_L (SOP, 8-Leads, Body 3x3mm, Pitch 0.65mm, IPC High Density)
footprint TI-DGK8_M (SOP, 8-Leads, Body 3x3mm, Pitch 0.65mm, IPC Low Density)
pins: 1 VIN- (in), 2 VOCM (in), 3 VS+ (power), 4 VOUT+ (out), 5 VOUT- (out), 6 VS- (power), 7 NC, 8 VIN+ (in)

## THS4501IDGKG4
designator U?
High-Speed Fully Differential Amplifier, 4.5 to 15 V, -40 to 85 degC, 8-pin SOP (DGK8), Green (RoHS & no Sb/Br); Manufacturer: Texas Instruments; PartNumber: THS4501IDGKG4; 2nd Harmonic(dBc): 55; 3rd Harmonic(dBc): 60; @ MHz: 30; BW @ Acl(MHz): 320; Io(Typ)(mA): 100; Iq per channel(Max)(mA): 31; Number of Channels: 1; Offset Voltage Drift (+/-)(Max)(uV/Degrees Celsius: 10; Settling Time (0.1%)(Typ)(ns): 8.3; Slew Rate(Typ)(V/us): 1300; THD (Fc is 1 MHz)(Typ)(dB): -70; Vio(Max)(mV): -7; Vn at Flatband(Typ)(nV/rtHz): 7; Vs(Max)(V): 15; Vs(Min)(V): 4.5; DatasheetVersion: SLOS350F; PackageVersion: 4073329/E, 05/2006; PackageReference: DGK8; PackageDescription: 8-Pin Thin Small Outline, Body 3 x 3 mm, Pitch 0.65 mm; Supplier 1: Digi-Key; Supplier Part Number 1: THS4501IDGKG4-ND; Supplier 2: Mouser; Supplier Part Number 2: 595-THS4501IDGKG4; Eco-Plan: Green (RoHS & no Sb/Br); SubFamily: Fully Differential Amplifier; Mounting Technology: Surface Mount; Code_JEDEC: MO-187; ComponentLink1Description: Manufacturer URL; ComponentLink1URL: http://www.ti.com/; ComponentLink2Description: Datasheet; ComponentLink2URL: http://www.ti.com/general/docs/lit/getliterature.tsp?genericPartNumber=THS4501&fileType=pdf; ComponentLink3Description: Package Specification; ComponentLink3URL: http://www.ti.com/litv/pdf/mpds028d
footprint TI-DGK8_N (SOP, 8-Leads, Body 3x3mm, Pitch 0.65mm, IPC Medium Density)
footprint TI-DGK8_L (SOP, 8-Leads, Body 3x3mm, Pitch 0.65mm, IPC High Density)
footprint TI-DGK8_M (SOP, 8-Leads, Body 3x3mm, Pitch 0.65mm, IPC Low Density)
pins: 1 VIN- (in), 2 VOCM (in), 3 VS+ (power), 4 VOUT+ (out), 5 VOUT- (out), 6 VS- (power), 7 NC, 8 VIN+ (in)

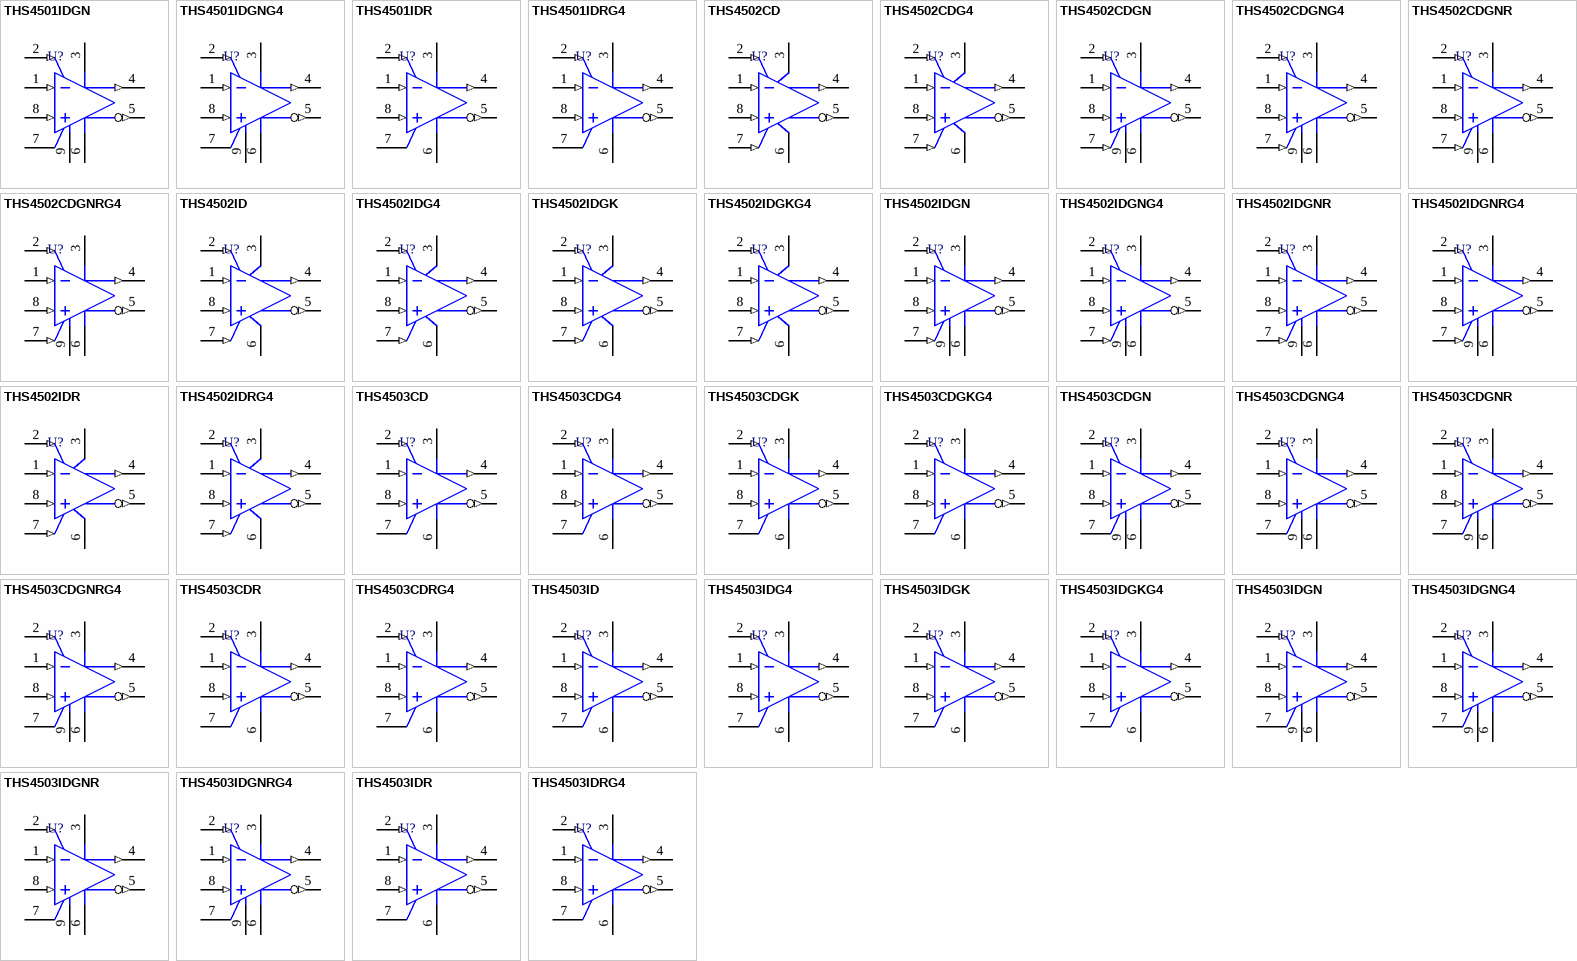
[diagram p4: symbols THS4501IDGN to THS4503IDRG4]

## THS4501IDGN
designator U?
High-Speed Fully Differential Amplifier, 4.5 to 15 V, -40 to 85 degC, 8-pin SOP (DGN8), Green (RoHS & no Sb/Br); Manufacturer: Texas Instruments; PartNumber: THS4501IDGN; 2nd Harmonic(dBc): 55; 3rd Harmonic(dBc): 60; @ MHz: 30; BW @ Acl(MHz): 320; Io(Typ)(mA): 100; Iq per channel(Max)(mA): 31; Number of Channels: 1; Offset Voltage Drift (+/-)(Max)(uV/Degrees Celsius: 10; Settling Time (0.1%)(Typ)(ns): 8.3; Slew Rate(Typ)(V/us): 1300; THD (Fc is 1 MHz)(Typ)(dB): -70; Vio(Max)(mV): -7; Vn at Flatband(Typ)(nV/rtHz): 7; Vs(Max)(V): 15; Vs(Min)(V): 4.5; DatasheetVersion: SLOS350F; PackageVersion: 4073271/F, 05/2011; PackageReference: DGN8-1760X1425TP; PackageDescription: 8-Pin Plastic Small Outline, Body 3 x 3 mm, Pitch 0.65 mm; Supplier 1: Digi-Key; Supplier Part Number 1: 296-13046-5-ND; Supplier 2: Newark; Supplier Part Number 2: 76C6462; Supplier 3: Mouser; Supplier Part Number 3: 595-THS4501IDGN; Eco-Plan: Green (RoHS & no Sb/Br); SubFamily: Fully Differential Amplifier; Mounting Technology: Surface Mount; Code_JEDEC: MO-187; ComponentLink1Description: Manufacturer URL; ComponentLink1URL: http://www.ti.com/; ComponentLink2Description: Datasheet; ComponentLink2URL: http://www.ti.com/general/docs/lit/getliterature.tsp?genericPartNumber=THS4501&fileType=pdf; ComponentLink3Description: Package Specification; ComponentLink3URL: http://www.ti.com/litv/pdf/mpds046e
footprint TI-DGN8-1760X1425TP_N (SOP, 8-Leads, Body 3x3mm, Pitch 0.65mm, Thermal Pad 1.76x1.425mm, IPC Medium Density)
footprint TI-DGN8-1760X1425TP_L (SOP, 8-Leads, Body 3x3mm, Pitch 0.65mm, Thermal Pad 1.76x1.425mm, IPC High Density)
footprint TI-DGN8-1760X1425TP_M (SOP, 8-Leads, Body 3x3mm, Pitch 0.65mm, Thermal Pad 1.76 x 1.425 mm, IPC Low Density)
pins: 1 VIN- (in), 2 VOCM (in), 3 VS+ (power), 4 VOUT+ (out), 5 VOUT- (out), 6 VS- (power), 7 NC, 8 VIN+ (in), 9 EP